# EAGLE library part SIGHTLINE_AR0134CS-ILCC48 (library SLA_1500_CAM_V8)
AR0134CS-1LCC48-10x10 1/3-inch 1.2 Mp CMOS digital image sensor with an active-pixel array of 1280 (H) × 960 (V) Specifications Manufacturer: On Semiconductor Manufacturer Part Number: AR0134CSSM00SPCA0 Operating Temperature Range(C): -30 - 70 Supply Voltage: I/O: 1.8 or 2.8V Digital: 1.8V Analog: 2.8V HiSPi: 0.4V Body Size(mm): 10 x 10 ARO134CS DATASHEET <https://www.onsemi.com/pub/Collateral/AR0134CS-D.PDF> Created by: Kimball S. Davis kimball4@pdx.edu <mailto: kimball4@pdx.edu> 22 January 2019 Version 001
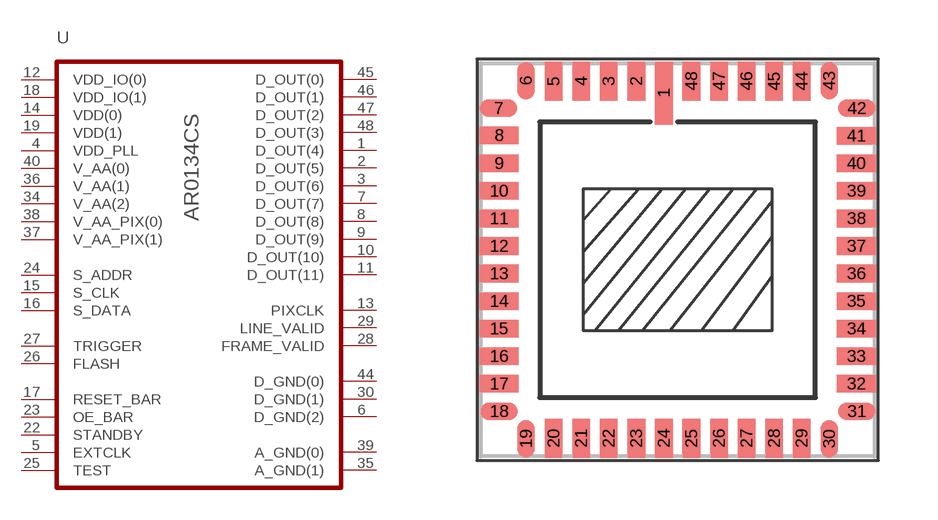
[diagram p0: symbol with the pads of SIGHTLINE_ILCC48_KD; footprint SIGHTLINE_ILCC48_KD]

Designator prefix U

## SIGHTLINE_AR0134CS-ILCC48 (DESCRIPTION: 1/3-inch 1.2 Mp CMOS digital image sensor with an active-pixel array of 1280 (H) × 960 (V); MANF: On Semiconductor; MANF#: AR0134CSSM00SPCA0)  [SIGHTLINE_ILCC48_KD]
1  D_OUT(4)
2  D_OUT(5)
3  D_OUT(6)
4  VDD_PLL
5  EXTCLK
6  D_GND(2)
7  D_OUT(7)
8  D_OUT(8)
9  D_OUT(9)
10  D_OUT(10)
11  D_OUT(11)
12  VDD_IO(0)
13  PIXCLK
14  VDD(0)
15  S_CLK
16  S_DATA
17  RESET_BAR
18  VDD_IO(1)
19  VDD(1)
22  STANDBY
23  OE_BAR
24  S_ADDR
25  TEST
26  FLASH
27  TRIGGER
28  FRAME_VALID
29  LINE_VALID
30  D_GND(1)
34  V_AA(2)
35  A_GND(1)
36  V_AA(1)
37  V_AA_PIX(1)
38  V_AA_PIX(0)
39  A_GND(0)
40  V_AA(0)
44  D_GND(0)
45  D_OUT(0)
46  D_OUT(1)
47  D_OUT(2)
48  D_OUT(3)

## Footprint SIGHTLINE_ILCC48_KD (pad centres in mm)
smd 0.45 x 1.6: 1 -0.35,4.238
smd 0.45 x 1: 2 -1.05,4.538; 3 -1.75,4.538; 4 -2.45,4.538; 5 -3.15,4.538; 20 -3.15,-4.538; 21 -2.45,-4.538; 22 -1.75,-4.538; 23 -1.05,-4.538; 24 -0.35,-4.538; 25 0.35,-4.538; 26 1.05,-4.538; 27 1.75,-4.538; 28 2.45,-4.538; 29 3.15,-4.538; 44 3.15,4.538; 45 2.45,4.538; 46 1.75,4.538; 47 1.05,4.538; 48 0.35,4.538
smd 0.45 x 0.95: 6 -3.85,4.55; 19 -3.85,-4.55; 30 3.85,-4.55; 43 3.85,4.55
smd 0.95 x 0.45: 7 -4.55,3.85; 18 -4.537,-3.85; 31 4.55,-3.85; 42 4.551,3.85
smd 1 x 0.45: 8 -4.538,3.163; 9 -4.538,2.45; 10 -4.538,1.75; 11 -4.538,1.05; 12 -4.538,0.35; 13 -4.538,-0.35; 14 -4.538,-1.05; 15 -4.538,-1.75; 16 -4.538,-2.45; 17 -4.538,-3.15; 32 4.538,-3.15; 33 4.538,-2.45; 34 4.538,-1.75; 35 4.538,-1.05; 36 4.538,-0.35; 37 4.538,0.35; 38 4.538,1.05; 39 4.538,1.75; 40 4.538,2.45; 41 4.538,3.15